# Altium footprint library STLINK-V3MODS.PcbLib: 1 footprints
Each footprint in its own frame and in the unit in brackets; x right, y up, seen from the top. Pads: shape width x height; smd on the part's side, far side on the other; paste and mask are expansions set on the pad; w line width, h text height; cw(c..) or ccw(c..) is an arc to the next point about the centre after c.
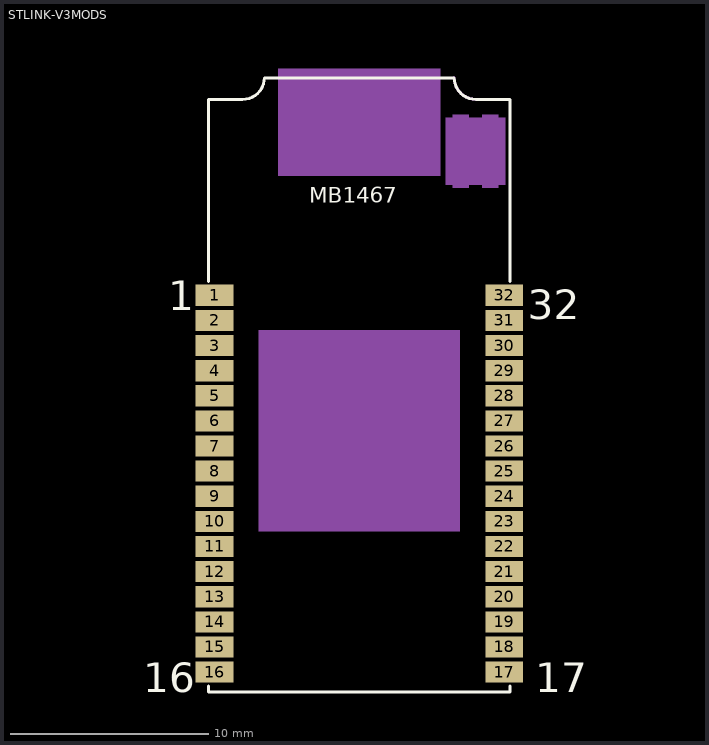
[diagram p0: the footprint, top view; thin cyan lines are the x and y axes]

## STLINK-V3MODS [mil] "STLINK V3 COMPACT IN-CIRCUIT DEB"
pads (32):
  rect 74.8x42.13 smd: 1(1921.81,-4560) 2(1921.81,-4610) 3(1921.81,-4660) 4(1921.81,-4710) 5(1921.81,-4760) 6(1921.81,-4810) 7(1921.81,-4860) 8(1921.81,-4910) 9(1921.81,-4960) 10(1921.81,-5010) 11(1921.81,-5060) 12(1921.81,-5110) 13(1921.81,-5160) 14(1921.81,-5210) 15(1921.81,-5260) 16(1921.81,-5310) 17(2498.19,-5310) 18(2498.19,-5260) 19(2498.19,-5210) 20(2498.19,-5160) 21(2498.19,-5110) 22(2498.19,-5060) 23(2498.19,-5010) 24(2498.19,-4960) 25(2498.19,-4910) 26(2498.19,-4860) 27(2498.19,-4810) 28(2498.19,-4760) 29(2498.19,-4710) 30(2498.19,-4660) 31(2498.19,-4610) 32(2498.19,-4560)
Top Overlay:
  lines w6: 1910,-5338 1910,-5350 2510,-5350 2510,-5338 ; 1910,-4532 1910,-4170 1978,-4170 ccw(c1978,-4127) 2021,-4127 2399,-4127 ccw(c2442,-4127) 2442,-4170 2510,-4170 2510,-4532
  text "MB1467" at 2110,-4376 h31
  text "32" at 2545,-4608 h59
  text "17" at 2560,-5350 h59
  text "16" at 1780,-5350 h59
  text "1" at 1830,-4590 h59
Mechanical 15:
  drawing of 291 lines, arcs and shapes, not listed